# EAGLE library part I6A (library converterModules)
TDK LAMBDA i6A BUCK CONVERTER Full Feature: 11 pin POL module (1/16 brick) 9-40V Input, 250W, 3.3-24V Output DATASHEET: www.mouser.com/ds/2/400/i6a-769886.pdf to 5V (4.47k tied up) custom
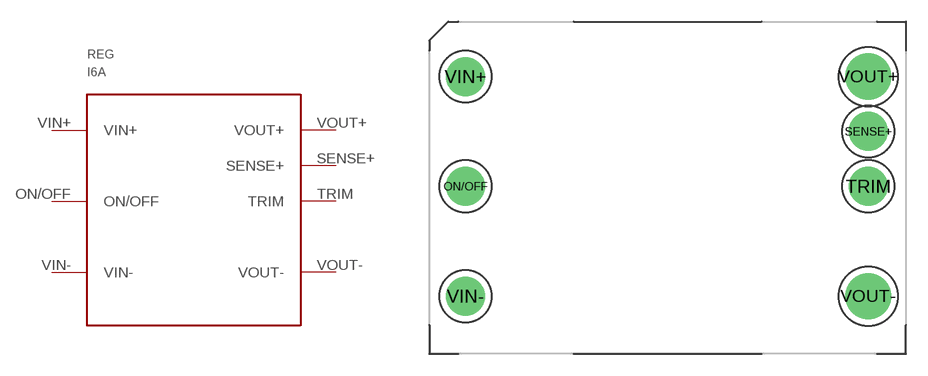
[diagram p0: symbol with the pads of I6A; footprint I6A]

Designator prefix REG

## I6A  [I6A]
ON/OFF  ON/OFF
SENSE+  SENSE+
TRIM  TRIM
VIN+  VIN+
VIN-  VIN-
VOUT+  VOUT+
VOUT-  VOUT-

## Footprint I6A (pad centres in mm)
TDK LAMBDA i6A BUCK CONVERTER Full Feature: 11 pin POL module (1/16 brick)
drill 1.5 pad 2.7: ON/OFF 2.5,-11.4; SENSE+ 30.4,-7.6; TRIM 30.4,-11.4; VIN+ 2.5,-3.8; VIN- 2.5,-19
drill 2 pad 3.2: VOUT+ 30.4,-3.8; VOUT- 30.4,-19